# Altium schematic symbol library Schlib1.SchLib: 12 symbols
Pins are listed as number, name and electrical type; pins without a type are passive.

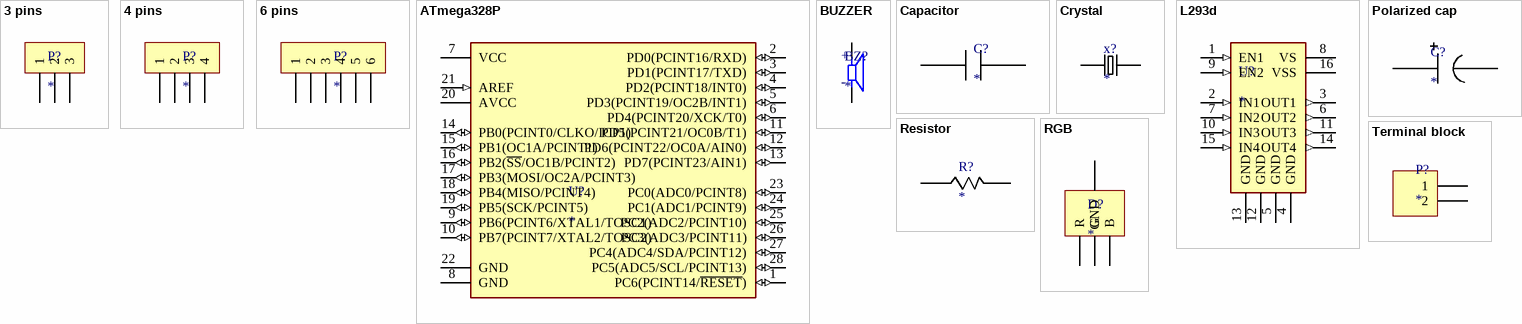
[diagram p0: symbols 3 pins to Terminal block]

## 3 pins
designator P?
footprint 3 pins connector
pins: 1, 2, 3

## 4 pins
designator P?
footprint 4 pins connector
pins: 1, 2, 3, 4

## 6 pins
designator P?
footprint 6 Pins connector (6 pins connector)
pins: 1, 2, 3, 4, 5, 6

## ATmega328P
designator U?
footprint ATmega328P (IC base)
pins: 1 PC6(PCINT14/~{RESET}) (io), 2 PD0(PCINT16/RXD) (io), 3 PD1(PCINT17/TXD) (io), 4 PD2(PCINT18/INT0) (io), 5 PD3(PCINT19/OC2B/INT1) (io), 6 PD4(PCINT20/XCK/T0) (io), 7 VCC (power), 8 GND (power), 9 PB6(PCINT6/XTAL1/TOSC1) (io), 10 PB7(PCINT7/XTAL2/TOSC2) (io), 11 PD5(PCINT21/OC0B/T1) (io), 12 PD6(PCINT22/OC0A/AIN0) (io), 13 PD7(PCINT23/AIN1) (io), 14 PB0(PCINT0/CLKO/ICP1) (io), 15 PB1(OC1A/PCINT1) (io), 16 PB2(~{SS}/OC1B/PCINT2) (io), 17 PB3(MOSI/OC2A/PCINT3) (io), 18 PB4(MISO/PCINT4) (io), 19 PB5(SCK/PCINT5) (io), 20 AVCC (power), 21 AREF (in), 22 GND (power), 23 PC0(ADC0/PCINT8) (io), 24 PC1(ADC1/PCINT9) (io), 25 PC2(ADC2/PCINT10) (io), 26 PC3(ADC3/PCINT11) (io), 27 PC4(ADC4/SDA/PCINT12) (io), 28 PC5(ADC5/SCL/PCINT13) (io)

## BUZZER
designator BZ?
footprint BUZZER (buzzer)
pins: M, P
text: +; -

## Capacitor
designator C?
footprint CAPACITOR (capacitor)
pins: 1, 2

## Crystal
designator x?
footprint CRYSTAL (crystal)
pins: 1, 2

## L293d
designator U?
footprint L293d (L293d motor driver)
pins: 1 EN1 (in), 2 IN1 (in), 3 OUT1 (out), 4 GND (power), 5 GND (power), 6 OUT2 (out), 7 IN2 (in), 8 VS (power), 9 EN2 (in), 10 IN3 (in), 11 OUT3 (out), 12 GND (power), 13 GND (power), 14 OUT4 (out), 15 IN4 (in), 16 VSS (power)

## Polarized cap
designator C?
footprint POL CAP (polarized capacitor)
pins: 1, 2

## Resistor
designator R?
footprint RESISTOR
pins: 1, 2

## RGB
designator D?
footprint RGB (RGB led indicator)
pins: 1 R, 2 GND, 3 G, 4 B

## Terminal block
designator P?
footprint TERMINAL BLOCK (terminal block)
pins: 1, 2